# Altium integrated library ECE Components_16_2.IntLib: 370 symbols (part 2 of 4)
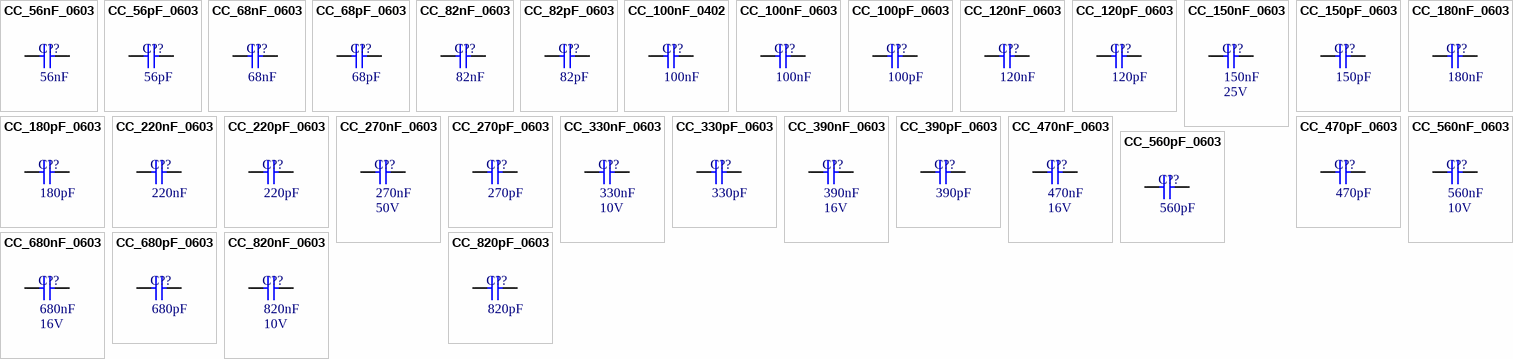
[diagram p12: symbols CC_56nF_0603 to CC_820pF_0603]

## CC_560nF_0603
designator C??, comment MoV: 10V  (hidden comment: 560nF)
CAP CER 560nF X7R +-10% 10V 0603; PackageReference: 0603; Code_IPC: 1608 [0603]; Verify: *; Supplier: ECE Dept; Storage Location: PCB Assembly WS; Value: 560nF
simulation model CAP (Capacitor)
footprint CAPC1608L (Chip Capacitor, Body 1.6x0.8mm, IPC High Density)
footprint CAPC1608M (Chip Capacitor, Body 1.6x0.8mm, IPC Low Density)
footprint CAPC1608N (Chip Capacitor, Body 1.6x0.8mm, IPC Medium Density)
pins: 1, 2

## CC_560pF_0603
designator C??, comment 560pF
CAP CER 560pF X7R +-10% 50V 0603; PackageReference: 0603; Code_IPC: 1608 [0603]; Verify: *; Supplier: ECE Dept; Storage Location: PCB Assembly WS; MoV: 50V; Value: 560pF
simulation model CAP (Capacitor)
signal-integrity model C0603
footprint CAPC1608L (Chip Capacitor, Body 1.6x0.8mm, IPC High Density)
footprint CAPC1608M (Chip Capacitor, Body 1.6x0.8mm, IPC Low Density)
footprint CAPC1608N (Chip Capacitor, Body 1.6x0.8mm, IPC Medium Density)
pins: 1, 2

## CC_680nF_0603
designator C??, comment MoV: 16V  (hidden comment: 680nF)
CAP CER 680nF X5R +-10% 16V 0603; PackageReference: 0603; Code_IPC: 1608 [0603]; Verify: *; Supplier: ECE Dept; Storage Location: PCB Assembly WS; Value: 680nF
simulation model CAP (Capacitor)
signal-integrity model C0603
footprint CAPC1608L (Chip Capacitor, Body 1.6x0.8mm, IPC High Density)
footprint CAPC1608M (Chip Capacitor, Body 1.6x0.8mm, IPC Low Density)
footprint CAPC1608N (Chip Capacitor, Body 1.6x0.8mm, IPC Medium Density)
pins: 1, 2

## CC_680pF_0603
designator C??, comment 680pF
CAP CER 680pF X7R +-10% 50V 0603; PackageReference: 0603; Code_IPC: 1608 [0603]; Verify: *; Supplier: ECE Dept; Storage Location: PCB Assembly WS; MoV: 50V; Value: 680pF
simulation model CAP (Capacitor)
signal-integrity model C0603
footprint CAPC1608L (Chip Capacitor, Body 1.6x0.8mm, IPC High Density)
footprint CAPC1608M (Chip Capacitor, Body 1.6x0.8mm, IPC Low Density)
footprint CAPC1608N (Chip Capacitor, Body 1.6x0.8mm, IPC Medium Density)
pins: 1, 2

## CC_820nF_0603
designator C??, comment MoV: 10V  (hidden comment: 820nF)
CAP CER 820nF X7R +-10% 10V 0603; PackageReference: 0603; Code_IPC: 1608 [0603]; Verify: *; Supplier: ECE Dept; Storage Location: PCB Assembly WS; Value: 820nF
simulation model CAP (Capacitor)
footprint CAPC1608L (Chip Capacitor, Body 1.6x0.8mm, IPC High Density)
footprint CAPC1608M (Chip Capacitor, Body 1.6x0.8mm, IPC Low Density)
footprint CAPC1608N (Chip Capacitor, Body 1.6x0.8mm, IPC Medium Density)
pins: 1, 2

## CC_820pF_0603
designator C??, comment 820pF
CAP CER 820pF X7R +-10% 50V 0603; PackageReference: 0603; Code_IPC: 1608 [0603]; Verify: *; Supplier: ECE Dept; Storage Location: PCB Assembly WS; Value: 820pF
simulation model CAP (Capacitor)
signal-integrity model C0603
footprint CAPC1608L (Chip Capacitor, Body 1.6x0.8mm, IPC High Density)
footprint CAPC1608M (Chip Capacitor, Body 1.6x0.8mm, IPC Low Density)
footprint CAPC1608N (Chip Capacitor, Body 1.6x0.8mm, IPC Medium Density)
pins: 1, 2


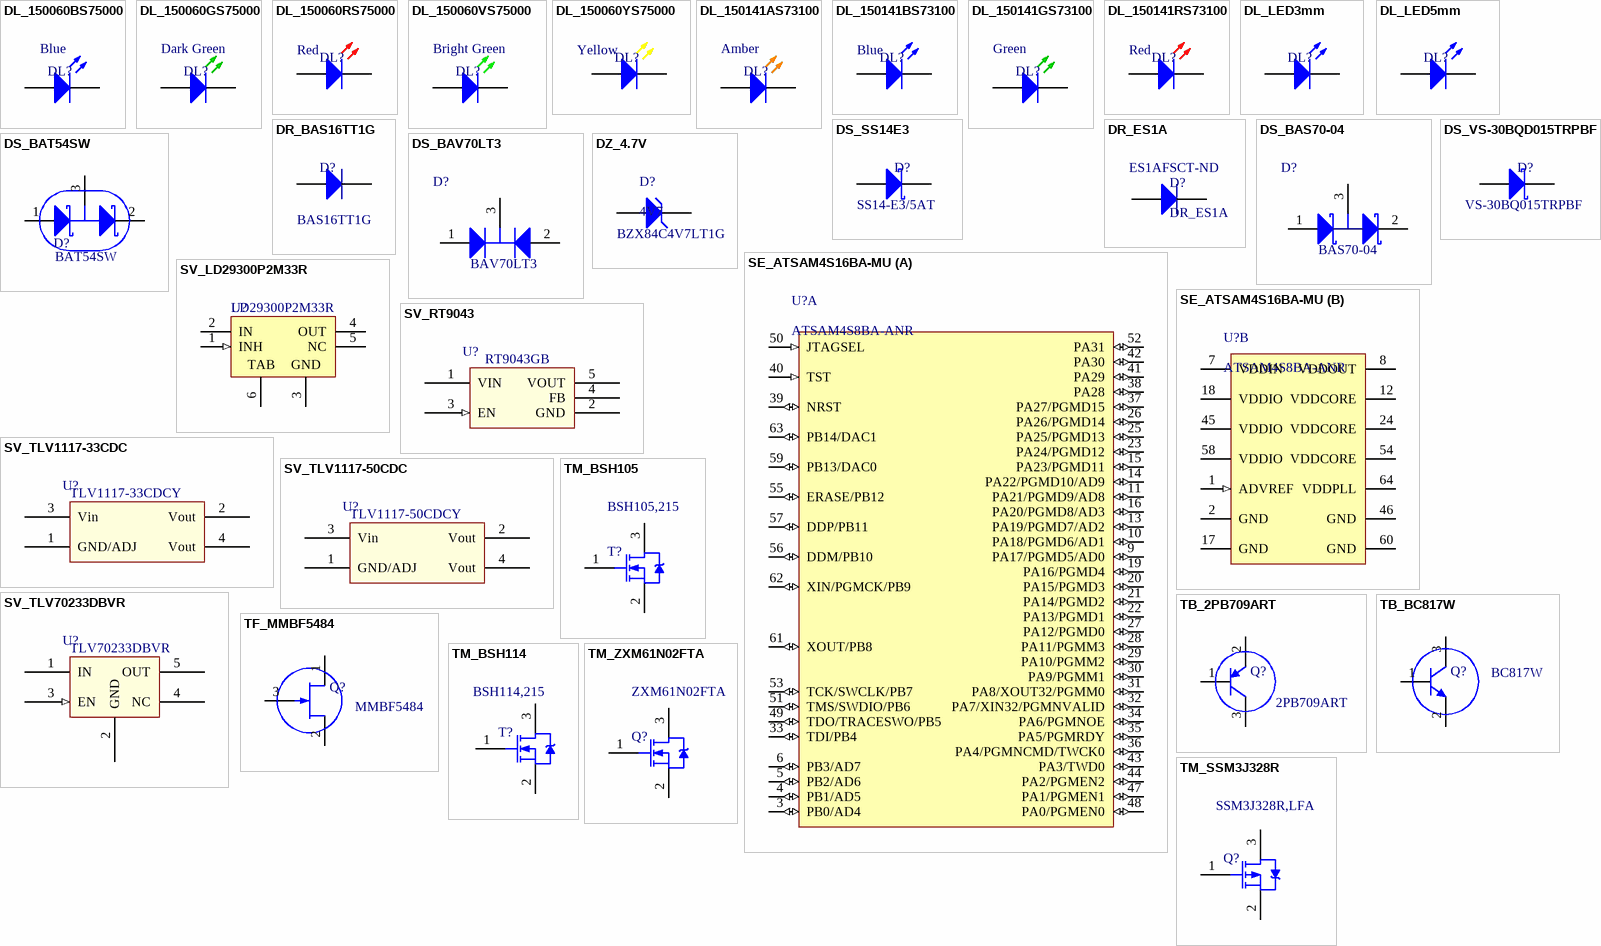
[diagram p3: symbols DL_150060BS75000 to TM_ZXM61N02FTA]

## DL_150060BS75000
designator DL?, comment Blue
LED Blue 270mcd 0603 SMD; Manufacturer: WURTH ELEKTRONIK; Manufacturer Part Number: 150060BS75000; Forward Current If: 30; Forward Voltage: 3.2; Luminous Intensity: 270; Viewing Angle: 120°; Wavelength Typ: 470; Pricing: 1=0.3844, 50=0.3252, 100=0.2957, 500=0.2365 (NZD); Supplier 1: Farnell; Supplier Part Number 1: 2322069; Storage Location: PCB Assembly WS; Supplier: ECE Dept; LED Colour: Blue
footprint WL-SMCW0603 (2.4 x 0.8 x 0.7mm LED)
pins: 1 K, 2 A

## DL_150060GS75000
designator DL?, comment Dark Green
LED Dk Green 430mcd 0603 SMD; Manufacturer: WURTH ELEKTRONIK; Manufacturer Part Number: 150060GS75000; Forward Current If: 30; Wavelength Typ: 520; Forward Voltage: 3.2; Lens Shape: Rectangular; Luminous Intensity: 430; Viewing Angle: 140°; LED Mounting: SMD; Supplier 1: Farnell; Supplier Part Number 1: 2322070; Storage Location: PCB Assembly WS; Supplier: ECE Dept; LED Colour: Dark Green
footprint WL-SMCW0603 (2.4 x 0.8 x 0.7mm LED)
pins: 1 K, 2 A

## DL_150060RS75000
designator DL?, comment Red
LED Red 250mcd 0603 SMD; Manufacturer: WURTH ELEKTRONIK; Manufacturer Part Number: 150060RS75000; Forward Current If: 30; Forward Voltage: 2; Lens Shape: Rectangular; Luminous Intensity: 250; Wavelength Typ: 625; Viewing Angle: 140°; LED Mounting: SMD; Supplier 1: Farnell; Supplier Part Number 1: 2322071; Storage Location: PCB Assembly WS; Supplier: ECE Dept; LED Colour: Red
footprint WL-SMCW0603 (2.4 x 0.8 x 0.7mm LED)
pins: 1 K, 2 A

## DL_150060VS75000
designator DL?, comment Bright Green
LED Bright Green 40mcd 0603 SMD; Manufacturer: WURTH ELEKTRONIK; Manufacturer Part Number: 150060VS75000; Forward Current If: 30; Forward Voltage: 2; Viewing Angle: 140°; Wavelength Typ: 570; Luminous Intensity: 40; LED Mounting: SMD; Supplier 1: Farnell; Supplier Part Number 1: 2322073; Storage Location: PCB Assembly WS; Supplier: ECE Dept; LED Colour: Bright Green
footprint WL-SMCW0603 (2.4 x 0.8 x 0.7mm LED)
pins: 1 K, 2 A

## DL_150060YS75000
designator DL?, comment Yellow
LED Yellow 120mcd 0603 SMD; Manufacturer: WURTH ELEKTRONIK; Manufacturer Part Number: 150060YS75000; Forward Current If: 30; Forward Voltage: 2; Wavelength Typ: 590; Lens Shape: Rectangular; Viewing Angle: 140°; Luminous Intensity: 120; LED Mounting: SMD; Supplier 1: Farnell; Supplier Part Number 1: 2322074; Storage Location: PCB Assembly WS; Supplier: ECE Dept; LED Colour: Yellow
footprint WL-SMCW0603 (2.4 x 0.8 x 0.7mm LED)
pins: 1 K, 2 A

## DL_150141AS73100
designator DL?, comment Amber
LED Amber 330mcd 3528 SMD; Manufacturer: WURTH ELEKTRONIK; Manufacturer Part Number: 150141AS73100; Forward Current If: 30; Forward Voltage: 2; Lens Shape: Round; Luminous Intensity: 330; Viewing Angle: 120°; Wavelength Typ: 605; LED Mounting: SMD; Supplier 1: Farnell; Supplier Part Number 1: 2322104; Storage Location: PCB Assembly WS; Supplier: ECE Dept; LED Colour: Amber
footprint WL-SMTW3528 (3.5 x 2.8 x 1.9 mm LED)
pins: 1 K, 2 A

## DL_150141BS73100
designator DL?, comment Blue
LED Blue 270mcd 3528 SMD; Manufacturer: WURTH ELEKTRONIK; Manufacturer Part Number: 150141BS73100; Forward Current If: 30; Forward Voltage: 3.2; Lens Shape: Round; Luminous Intensity: 270; Supplier 1: Farnell; Supplier Part Number 1: 2322105; Storage Location: PCB Assembly WS; Supplier: ECE Dept; LED Mounting: SMD; LED Colour: Blue
footprint WL-SMTW3528 (3.5 x 2.8 x 1.9 mm LED)
pins: 1 K, 2 A

## DL_150141GS73100
designator DL?, comment Green
LED Green 1000mcd  3528 SMD; Manufacturer: WURTH ELEKTRONIK; Manufacturer Part Number: 150141GS73100; Forward Current If: 30; Lens Shape: Round; Luminous Intensity: 1; Viewing Angle: 120°; Wavelength Typ: 525; LED Mounting: SMD; Supplier 1: Farnell; Supplier Part Number 1: 2322106; Storage Location: PCB Assembly WS; Supplier: ECE Dept; LED Colour: Green
footprint WL-SMTW3528 (3.5 x 2.8 x 1.9 mm LED)
pins: 1 K, 2 A

## DL_150141RS73100
designator DL?, comment Red
LED Red 300mcd 3528 SMD; Manufacturer: WURTH ELEKTRONIK; Manufacturer Part Number: 150141RS73100; Forward Current If: 30; Forward Voltage: 2; Lens Shape: Round; Luminous Intensity: 300; Viewing Angle: 120°; Wavelength Typ: 625; LED Mounting: SMD; Supplier 1: Farnell; Supplier Part Number 1: 2322107; Storage Location: PCB Assembly WS; Supplier: ECE Dept; LED Colour: Red
footprint WL-SMTW3528 (3.5 x 2.8 x 1.9 mm LED)
pins: 1 K, 2 A

## DL_LED3mm
designator DL?
LED 3mm Dia Thru Hole; Storage Location: ECE Store; Supplier 1: Farnell; Supplier Part Number 1: 1497967; Supplier: ECE Dept
footprint LED3MMTH (LED 3 mm Through Hole)
pins: 1 K, 2 A

## DL_LED5mm
designator DL?
LED 5mm Dia Thru Hole; Storage Location: ECE Store; Supplier 1: Farnell; Supplier Part Number 1: 1241259; Supplier: ECE Dept
footprint LED5MMTH (LED 5 mm Through Hole)
pins: 1 K, 2 A

## DR_BAS16TT1G
designator D?, comment BAS16TT1G
Diode Switching, Vr 75V, 200mA, SOT-416; Manufacturer: ON Semiconductor; Supplier 1: Farnell; Supplier Part Number 1: 1150367; Supplier 2: ECE Stock; Manufacturer PN: BAS16TT1G; Storage Location: PCB Assembly WS; Supplier: ECE Dept; Value: BAS16TT1G
footprint SOT416 (2x2.2 mm 3 pad SMD)
pins: 1 A, 3 K

## DR_ES1A
designator D?  Supplier Part Number 1: ES1AFSCT-ND
Ultrafast Rectifier SMD, SMA (DO-214C); Vprm: 50V; Vrms: 35; If av: 1.0A; Ifsm: 30A; Capacitance @ Vr, F: 7pF @ 4V, 1MHz; Current - Average Rectified (Io): 1A; Current - Reverse Leakage @ Vr: 5µA @ 50V; Reverse Recovery Time (trr): 15ns; Speed: Fast Recovery =< 500ns, > 200mA (Io); Voltage - Forward (Vf) (Max) @ If: 920mV @ 1A; Max DC blocking V: 50V; Category: Discrete Semiconductor Products; Package / Case: DO-214AC, SMA; Supplier Device Package: SMA (DO-214AC); Voltage - DC Reverse (Vr) (Max): 50V; Supplier 1: Digi-Key
footprint SMA (SODFL, 2-Leads, Body 2.67x5.10mm, IPC Medium Density)
pins: 1 K, 2 A

## DS_BAS70-04
designator D?, comment BAS70-04
Schottky Dual Series Diode, SOT23,; Manufacturer: Infineon; CT (max): 2 pF; Green: TRUE; IF (max): 70 mA; VF (max): 1,000 mV; VR (max): 70 V; PackageReference: SOT23; PackageDescription: 3-Pin Small Outline Transistor Package, 1.3 x 2.9 mm Body, 0.95 mm Pitch; Supplier 3: Farnell; Supplier Part Number 3: 1056501; Configuration: Dual; Mounting Technology: Surface Mount; ComponentLink1Description: Manufacturer URL; ComponentLink1URL: http://www.infineon.com/; ComponentLink2Description: Datasheet; ComponentLink2URL: http://www.infineon.com/dgdl/bas70_bas170series.pdf?folderId=db3a30431400ef68011425f1ca2505e3&fileId=db3a304314dca389011518ad41680e12; ComponentLink3Description: Package Specification; ComponentLink3URL: http://www.infineon.com/dgdl/SOT23-Package_Overview.pdf?folderId=db3a30431936bc4b0119532290053c66&fileId=db3a30431936bc4b0119533468123c85; Supplier 1: Farnell; Supplier Part Number 1: 1621826; PartNumber: BAS70-04
footprint INF-SOT23_L (SOT23, 3-Leads, Body 2.9x1.3 mm, Pitch 0.95 mm, IPC High Density)
footprint INF-SOT23_N (SOT23, 3-Leads, Body 2.9x1.3 mm, Pitch 0.95 mm, IPC Medium Density)
footprint INF-SOT23_M (SOT23, 3-Leads, Body 2.9x1.3 mm, Pitch 0.95 mm, IPC Low Density)
pins: 1 A1, 2 K2, 3 C

## DS_BAT54SW
designator D?, comment value BAT54SW  (hidden comment: Farnell)
Schottky Barrier Double Diode 30V @ 200mA SOT323; Supplier 1: Farnell; Supplier Part Number 1: 1081195; Storage Location: PCB Assembly WS; Supplier: ECE Dept
signal-integrity model BAS40-04
footprint SOT323_M (SOT323, 3-Leads, Body 2.0x1.3mm, Pitch 0.65mm, Lead Span 2.1mm, IPC Low Density)
footprint SOT323_N (SOT323, 3-Leads, Body 2.0x1.3mm, Pitch 0.65mm, Lead Span 2.1mm, IPC Medium Density)
pins: 1 A, 2, 3

## DS_BAV70LT3
designator D?, comment BAV70LT3
Dual Switching Diodes, Common Cathode, 3-Pin SOT-23,; Manufacturer: On Semiconductor; Note: 0; IF Max (A): 0.2; Packing: Tape and Reel; trr Max (ns): 6; DatasheetVersion: Rev. 8; PackageVersion: Rev. AP, 11/2009; PackageReference: SOT-23-3-318-08; PackageDescription: 3-Pin Small Outline Transistor, Body 2.92 x 1.3 mm, Pitch 0.95 mm; Configuration: Common Cathode; RoHS: FALSE; Mounting Technology: Surface Mount; ComponentLink1Description: Manufacturer URL; ComponentLink1URL: http://www.onsemi.com/; ComponentLink2Description: Datasheet; ComponentLink2URL: http://www.onsemi.cn/pub_link/Collateral/BAV70LT1-D.PDF; ComponentLink3Description: Package Specification; ComponentLink3URL: http://www.onsemi.cn/pub_link/Collateral/318-08.PDF; Supplier 1: Digi-Key; Supplier Part Number 1: BAV70LT3GOSCT-ND; PartNumber: BAV70LT3
footprint ONSC-SOT-23-3-318-08_V (SOT23, 3-Leads, Body 2.92x1.3mm, Pitch 0.95mm)
pins: 1 A1, 2 A2, 3 K

## DS_SS14E3
designator D?, comment SS14-E3/5AT
DIODE, SCHOTTKY, 1A, 40V, DO-214AC; Manufacturer: VISHAY GENERAL SEMICONDUCTOR; Diode Case Style: DO-214; Forward Current If(AV): 1; Diode Type: Schottky; Package / Case: SMA; Supplier 1: Digi-Key; Supplier Part Number 1: SS14-E3/5ATGICT-ND; Supplier 2: Farnell; Supplier Part Number 2: 9551280; Supplier 3: Mouser; Supplier Part Number 3: 625-SS14-E3/11T; Storage Location: PCB Assembly WS; Supplier: ECE Dept; Manufacturer Part Number: SS14-E3/5AT
footprint DIOM4227X23N (Molded Diode, 2-Leads, Body 4.25x2.67mm, IPC Medium Density)
pins: 1 K, 2 A

## DS_VS-30BQD015TRPBF
designator D?, comment VS-30BQ015TRPBF
DIODE SCHOTTKY 15V 3A SMC; Manufacturer: Vishay Semiconductor Diodes Division; Current - Reverse Leakage @ Vr: 4mA @ 15V; Voltage - Forward (Vf) (Max) @ If: 350mV @ 3A; Current - Average Rectified (Io): 3A; Package / Case: DO-214AB, SMC; Pricing: 1=1.59, 10=1.417, 25=1.2504, 100=1.1253, 250=0.97944, 500=0.87526, 1000=0.6877 (NZD); Supplier 1: Digi-Key; Supplier Part Number 1: 30BQ015PBFCT-ND; Supplier 2: Farnell; Supplier Part Number 2: 9101250; Supplier 3: Mouser; Supplier Part Number 3: N/A; Storage Location: PCB Assembly WS; Supplier: ECE Dept; Manufacturer Part Number: VS-30BQ015TRPBF
footprint SMC (DO-214-AB/SMC; 2 C-Bend Leads; Body 7.9 x 5.9 mm, inc. leads (LxW))
pins: 1 A "Anode", 2 K "Cathode"

## DZ_4.7V
designator D?, comment 4V7  Manufacturer Part Number: BZX84C4V7LT1G
BZX84C4V7LT1G - DIODE, ZENER, 4.7V, 225MW, SOT23; Manufacturer: ON SEMICONDUCTOR; Breakdown Voltage Max: 5; Breakover Voltage Min: 4.7; Diode Case Style: SOT-23; Power Dissipation Pd: 225; Supplier 1: Farnell; Supplier 2: Digi-Key; Supplier Part Number 1: 1459051; Supplier Part Number 2: BZX84C4V7LT1GOSCT-ND
footprint SOT23_L (SOT23, 3-Leads, Body 2.9x1.3mm, Pitch 0.95mm, Lead Span 2.3mm, IPC High Density)
footprint SOT23_M (SOT23, 3-Leads, Body 2.9x1.3mm, Pitch 0.95mm, Lead Span 2.3mm, IPC Low Density)
footprint SOT23_N (SOT23, 3-Leads, Body 2.9x1.3mm, Pitch 0.95mm, Lead Span 2.3mm, IPC Medium Density)
pins: 1 A, 3 K

## SE_ATSAM4S16BA-MU
designator U?, comment ATSAM4S8BA-ANR
IC MCU 32BIT 512KB FLASH 64LQFP; Manufacturer: Atmel; Connectivity: I²C, IrDA, Memory Card, SPI, SSC, UART/USART, USB; Core Processor: ARM® Cortex®-M4; Core Size: 32-Bit; Data Converters: A/D 11x12b, D/A 2x12b; Number of I/O: 47; Peripherals: Brown-out Detect/Reset, DMA, POR, PWM, WDT; Program Memory Size: 512KB (512K x 8); RAM Size: 128K x 8; Speed: 120MHz; Voltage - Supply (Vcc/Vdd): 1.62 V ~ 3.6 V; PackageVersion: revJ, Jul-2007; PackageReference: 64PS; PackageDescription: 64-Pin Quad Flat No-Lead (QFN) Sawn, 9 x 9 x 1.0 mm Body, 0.5 mm Pitch, Exposed Pad; Code_JEDEC: MO-220VMMD-3; ComponentLink1Description: Manufacturer URL; ComponentLink1URL: http://www.atmel.com/; ComponentLink2Description: SAM4S Series Datasheet; ComponentLink2URL: http://www.atmel.com/dyn/resources/prod_documents/11100.pdf; ComponentLink3Description: SAM4S Series Summary; ComponentLink3URL: http://www.atmel.com/dyn/resources/prod_documents/11100S.pdf; Supplier 1: Digi-Key; Package / Case: 64-LQFP; Packaging: Cut Tape (CT); Program Memory Type: FLASH; Supplier Part Number 1: ATSAM4S8BA-ANRCT-ND; Manufacturer Part Number: ATSAM4S8BA-ANR
footprint LQFP64_L (Thin QFP, 64-Leads, Body 10x10mm, Pitch 0.5mm, IPC High Density)
part A pins: 3 PB0/AD4 (io), 4 PB1/AD5 (io), 5 PB2/AD6 (io), 6 PB3/AD7 (io), 9 PA17/PGMD5/AD0 (io), 10 PA18/PGMD6/AD1 (io), 11 PA21/PGMD9/AD8 (io), 13 PA19/PGMD7/AD2 (io), 14 PA22/PGMD10/AD9 (io), 15 PA23/PGMD11 (io), 16 PA20/PGMD8/AD3 (io), 19 PA16/PGMD4 (io), 20 PA15/PGMD3 (io), 21 PA14/PGMD2 (io), 22 PA13/PGMD1 (io), 23 PA24/PGMD12 (io), 25 PA25/PGMD13 (io), 26 PA26/PGMD14 (io), 27 PA12/PGMD0 (io), 28 PA11/PGMM3 (io), 29 PA10/PGMM2 (io), 30 PA9/PGMM1 (io), 31 PA8/XOUT32/PGMM0 (io), 32 PA7/XIN32/PGMNVALID (io), 33 TDI/PB4 (io), 34 PA6/PGMNOE (io), 35 PA5/PGMRDY (io), 36 PA4/PGMNCMD/TWCK0 (io), 37 PA27/PGMD15 (io), 38 PA28 (io), 39 NRST (io), 40 TST (in), 41 PA29 (io), 42 PA30 (io), 43 PA3/TWD0 (io), 44 PA2/PGMEN2 (io), 47 PA1/PGMEN1 (io), 48 PA0/PGMEN0 (io), 49 TDO/TRACESWO/PB5 (io), 50 JTAGSEL (in), 51 TMS/SWDIO/PB6 (io), 52 PA31 (io), 53 TCK/SWCLK/PB7 (io), 55 ERASE/PB12 (io), 56 DDM/PB10 (io), 57 DDP/PB11 (io), 59 PB13/DAC0 (io), 61 XOUT/PB8 (io), 62 XIN/PGMCK/PB9 (io), 63 PB14/DAC1 (io)
part B pins: 1 ADVREF (in), 2 GND (power), 7 VDDIN (power), 8 VDDOUT (power), 12 VDDCORE (power), 17 GND (power), 18 VDDIO (power), 24 VDDCORE (power), 45 VDDIO (power), 46 GND (power), 54 VDDCORE (power), 58 VDDIO (power), 60 GND (power), 64 VDDPLL (power)

## SV_LD29300P2M33R
designator U?, comment LD29300P2M33R
3A, Very Low-Drop Voltage Reg, 3.3V, 6-Pin P2PAK/A; Manufacturer: STMicroelectronics; Number of Regulators: 1; Regulator Topology: Positive Fixed; Voltage - Dropout (Typical): 0.4V @ 3A; Voltage - Input: Up to 14V; Current - Output: 3A; Mounting Type: Surface Mount; Operating Temperature: -40°C ~ 125°C; Package / Case: TO-263-6, D²Pak (5 Leads + Tab), TO-263BA; Supplier Device Package: P2PAK-4; Voltage - Output: 3.3V; Supplier 1: Digi-Key; Supplier Part Number 1: 497-3475-1-ND; Manufacturer Part Number: LD29300P2M33R
footprint P2PAK/A_N (D2-PAK, 6-Leads, Body 9.2x10.2mm, Pitch 1.7mm, Lead Span 15.4mm, IPC Medium Density)
footprint P2PAK/A_M (D2-PAK, 6-Leads, Body 9.2x10.2mm, Pitch 1.7mm, Lead Span 15.4mm, IPC Low Density)
pins: 1 INH (in), 2 IN (power), 3 GND (power), 4 OUT (power), 5 NC, 6 TAB

## SV_RT9043
designator U?, comment RT9043GB
IC REG LDO ADJ 0.4A SOT23-5; Manufacturer: Richtek USA Inc; Current - Output: 400mA; Regulator Topology: Positive Adjustable; Voltage - Dropout (Typical): 0.23V @ 400mA; Voltage - Input: 2.2 V ~ 5.5 V; Voltage - Output: 1.2 V ~ 3.3 V; Supplier 1: Digi-Key; Supplier 2: Farnell; Package / Case: SC-74A, SOT-753; Supplier Part Number 1: 1028-1012-1-ND; Supplier Part Number 2: 2341442; Manufacturer Part Number: RT9043GB
footprint SOT95P188X129-5N (SOT23, 5-Leads, Body 2.90x1.88mm, Pitch 0.95mm, IPC Medium Density)
pins: 1 VIN (power), 2 GND (power), 3 EN (in), 4 FB, 5 VOUT (power)

## SV_TLV1117-33CDC
designator U?, comment TLV1117-33CDCY
IC REG LDO 3.3V 0.8A SOT223; Manufacturer: Texas Instruments; Current - Output: 800mA; Voltage - Dropout (Typical): 1.2V @ 800mA; Voltage - Input: 4.7 V ~ 15 V; Supplier Device Package: SOT-223; Voltage - Output: 3.3V; Package / Case: TO-261-4, TO-261AA; Supplier 1: Digi-Key; Supplier 2: Farnell; Supplier Part Number 1: 296-26776-5-ND; Supplier Part Number 2: 2009003; Manufacturer Part Number: TLV1117-33CDCY
footprint SOT230P700X180-4N (SOT223, 4-Leads, Body 6.50x7.00mm (avg), Pitch 2.30mm, IPC Medium Density)
pins: 1 GND/ADJ, 2 Vout (power), 3 Vin (power), 4 Vout (power)

## SV_TLV1117-50CDC
designator U?, comment TLV1117-50CDCY
IC REG LDO 5V 0.8A SOT223; Manufacturer: Texas Instruments; Current - Output: 800mA; Voltage - Input: 6.4 V ~ 15 V; Supplier 1: Digi-Key; Supplier 2: Farnell; Package / Case: TO-261-4, TO-261AA; Voltage - Output: 5V; Supplier Part Number 1: 296-21114-1-ND; Supplier Part Number 2: 2114118; Manufacturer Part Number: TLV1117-50CDCY
footprint SOT230P700X180-4N (SOT223, 4-Leads, Body 6.50x7.00mm (avg), Pitch 2.30mm, IPC Medium Density)
pins: 1 GND/ADJ, 2 Vout (power), 3 Vin (power), 4 Vout (power)

## SV_TLV70233DBVR
designator U?, comment TLV70233DBVR
IC REG LDO 3.3V 0.3A SOT23-5; Manufacturer: Texas Instruments; Current - Output: 300mA; Supplier 1: Digi-Key; Operating Temperature: -40°C ~ 125°C; Package / Case: SC-74A, SOT-753; Pricing: 1=0.77, 10=0.647, 25=0.5672, 100=0.4853, 250=0.421, 500=0.35658, 750=0.30789, 1000=0.2749 (NZD); Supplier Part Number 1: 296-32415-1-ND; Manufacturer Part Number: TLV70233DBVR
footprint SOT95P280X145-5N (SOT23, 5-Leads, Body 2.90x2.80mm, Pitch 0.95mm, IPC Medium Density)
pins: 1 IN (power), 2 GND (power), 3 EN (in), 4 NC, 5 OUT (power)

## TB_2PB709ART
designator Q?, comment 2PB709ART
PNP GP Bipolar Transistor -45V -100MA SOT23; Manufacturer: NXP; Manufacturer PN: 2PB709ART; Supplier 1: Farnell; Supplier Part Number 1: 2114874; Storage Location: PCB Assembly WS; Supplier: ECE Dept; Value: 2PB709ART
signal-integrity model PNP
footprint SOT23_L (SOT23, 3-Leads, Body 2.9x1.3mm, Pitch 0.95mm, Lead Span 2.3mm, IPC High Density)
footprint SOT23_M (SOT23, 3-Leads, Body 2.9x1.3mm, Pitch 0.95mm, Lead Span 2.3mm, IPC Low Density)
footprint SOT23_N (SOT23, 3-Leads, Body 2.9x1.3mm, Pitch 0.95mm, Lead Span 2.3mm, IPC Medium Density)
pins: 1, 2, 3

## TB_BC817W
designator Q?, comment BC817W
NPN GP Bipolar Transistor 45V 500mA SOT323; Manufacturer: NXP; Supplier 1: Farnell; Supplier Part Number 1: 2114873; Manufacturer PN: BC817W; Storage Location: PCB Assembly WS; Supplier: ECE Dept; Value: BC817W
signal-integrity model 2N3904
footprint SOT323_M (SOT323, 3-Leads, Body 2.0x1.3mm, Pitch 0.65mm, Lead Span 2.1mm, IPC Low Density)
footprint SOT323_N (SOT323, 3-Leads, Body 2.0x1.3mm, Pitch 0.65mm, Lead Span 2.1mm, IPC Medium Density)
pins: 1, 2, 3

## TF_MMBF5484
designator Q?, comment value MMBF5484  (hidden comment: Farnell)
JFET N-CH 25V SOT-23; Supplier 1: Farnell; Supplier Part Number 1: 1700690; Storage Location: PCB Assembly WS; Supplier: ECE Dept
footprint SOT23_L (SOT23, 3-Leads, Body 2.9x1.3mm, Pitch 0.95mm, Lead Span 2.3mm, IPC High Density)
footprint SOT23_M (SOT23, 3-Leads, Body 2.9x1.3mm, Pitch 0.95mm, Lead Span 2.3mm, IPC Low Density)
footprint SOT23_N (SOT23, 3-Leads, Body 2.9x1.3mm, Pitch 0.95mm, Lead Span 2.3mm, IPC Medium Density)
pins: 1 "Drain", 2 "Source", 3 "Gate"

## TM_BSH105
designator T?, comment BSH105,215
MOSFET N-CH 20V 1.05A SOT-23; Manufacturer: NXP Semiconductors; FET Type: MOSFET N-Channel, Metal Oxide; Gate Charge (Qg) @ Vgs: 3.9nC @ 4.5V; Input Capacitance (Ciss) @ Vds: 152pF @ 16V; Power - Max: 417mW; Rds On (Max) @ Id, Vgs: 200 mOhm @ 600mA, 4.5V; Supplier 1: Farnell; Supplier 2: Digi-Key; Current - Continuous Drain (Id) @ 25° C: 1.05A; Drain to Source Voltage (Vdss): 20V; Package / Case: TO-236-3, SC-59, SOT-23-3; Pricing: 1=0.53, 10=0.42, 25=0.3544, 100=0.2885, 250=0.23896, 500=0.1974, 1000=0.14785 (NZD); Supplier Part Number 1: 1758066; Supplier Part Number 2: 568-6215-1-ND; Storage Location: PCB Assembly WS; Supplier: ECE Dept; Manufacturer Part Number: BSH105,215
footprint SOT23_L (SOT23, 3-Leads, Body 2.9x1.3mm, Pitch 0.95mm, Lead Span 2.3mm, IPC High Density)
footprint SOT23_M (SOT23, 3-Leads, Body 2.9x1.3mm, Pitch 0.95mm, Lead Span 2.3mm, IPC Low Density)
footprint SOT23_N (SOT23, 3-Leads, Body 2.9x1.3mm, Pitch 0.95mm, Lead Span 2.3mm, IPC Medium Density)
pins: 1 "Gate", 2 "Source", 3

## TM_BSH114
designator T?, comment BSH114,215
MOSFET N-CH 100V 0.85A SOT-23; Continuous Drain Current Id: 500; Current Id Max: 850; Drain Source Voltage Vds: 100; Power Dissipation Pd: 830; Transistor Type: Enhancement; Voltage Vds Typ: 130; Voltage Vgs Max: 3; Voltage Vgs Rds on Measurement: 10; Transistor Case Style: SOT-23; Supplier 1: Farnell; Supplier Part Number 1: 1758071RL; Manufacturer Part Number: BSH114,215
footprint SOT23_L (SOT23, 3-Leads, Body 2.9x1.3mm, Pitch 0.95mm, Lead Span 2.3mm, IPC High Density)
footprint SOT23_M (SOT23, 3-Leads, Body 2.9x1.3mm, Pitch 0.95mm, Lead Span 2.3mm, IPC Low Density)
footprint SOT23_N (SOT23, 3-Leads, Body 2.9x1.3mm, Pitch 0.95mm, Lead Span 2.3mm, IPC Medium Density)
pins: 1 "Gate", 2 "Source", 3

## TM_SSM3J328R
designator Q?, comment SSM3J328R,LFA
MOSFET P-CH 50V 130MA SOT23-3; Current - Continuous Drain (Id) @ 25° C: 6A; Drain to Source Voltage (Vdss): 20V; FET Feature: Logic Level Gate, 1.5V Drive; FET Type: MOSFET P-Channel, Metal Oxide; Gate Charge (Qg) @ Vgs: 12.8nC @ 4.5V; Input Capacitance (Ciss) @ Vds: 840pF @ 10V; Power - Max: 1W; Vgs(th) (Max) @ Id: 1V @ 1mA; Package / Case: SOT-23-3 Flat Leads; Supplier Device Package: SOT-23F; Pricing: 1=0.79, 10=0.658, 25=0.5772, 100=0.4939, 250=0.42836, 500=0.36284, 1000=0.27972 (NZD); Supplier 1: Digi-Key; Supplier Part Number 1: SSM3J328RLF(ACT-ND; Supplier 2: Mouser; Supplier Part Number 2: N/A; Supplier Part Number: SSM3J328RLF(ACT-ND; Storage Location: PCB Assembly WS; Supplier: ECE Dept; Manufacturer Part Number: SSM3J328R,LFA
footprint SOT23_L (SOT23, 3-Leads, Body 2.9x1.3mm, Pitch 0.95mm, Lead Span 2.3mm, IPC High Density)
footprint SOT23_M (SOT23, 3-Leads, Body 2.9x1.3mm, Pitch 0.95mm, Lead Span 2.3mm, IPC Low Density)
footprint SOT23_N (SOT23, 3-Leads, Body 2.9x1.3mm, Pitch 0.95mm, Lead Span 2.3mm, IPC Medium Density)
pins: 1 "Gate", 2 "Source", 3 "Drain"

## TM_ZXM61N02FTA
designator Q?, comment ZXM61N02FTA
MOSFET N-CH 20V 1.7A SOT23-3; Manufacturer: Diodes Inc; FET Type: MOSFET N-Channel, Metal Oxide; Gate Charge (Qg) @ Vgs: 3.4nC @ 4.5V; Input Capacitance (Ciss) @ Vds: 160pF @ 15V; Power - Max: 625mW; Rds On (Max) @ Id, Vgs: 180 mOhm @ 930mA, 4.5V; Vgs(th) (Max) @ Id: 700mV @ 250µA; Supplier 1: Farnell; Supplier 2: Digi-Key; Current - Continuous Drain (Id) @ 25° C: 1.7A; Drain to Source Voltage (Vdss): 20V; Package / Case: TO-236-3, SC-59, SOT-23-3; Pricing: 1=0.79, 10=0.658, 25=0.5772, 100=0.4939, 250=0.42836, 500=0.36284, 1000=0.27972 (NZD); Supplier Part Number 1: 9525270; Supplier Part Number 2: ZXM61N02FCT-ND; Storage Location: PCB Assembly WS; Supplier: ECE Dept; Manufacturer Part Number: ZXM61N02FTA
footprint SOT23_L (SOT23, 3-Leads, Body 2.9x1.3mm, Pitch 0.95mm, Lead Span 2.3mm, IPC High Density)
footprint SOT23_M (SOT23, 3-Leads, Body 2.9x1.3mm, Pitch 0.95mm, Lead Span 2.3mm, IPC Low Density)
footprint SOT23_N (SOT23, 3-Leads, Body 2.9x1.3mm, Pitch 0.95mm, Lead Span 2.3mm, IPC Medium Density)
pins: 1 "Gate", 2 "Source", 3 "Drain"


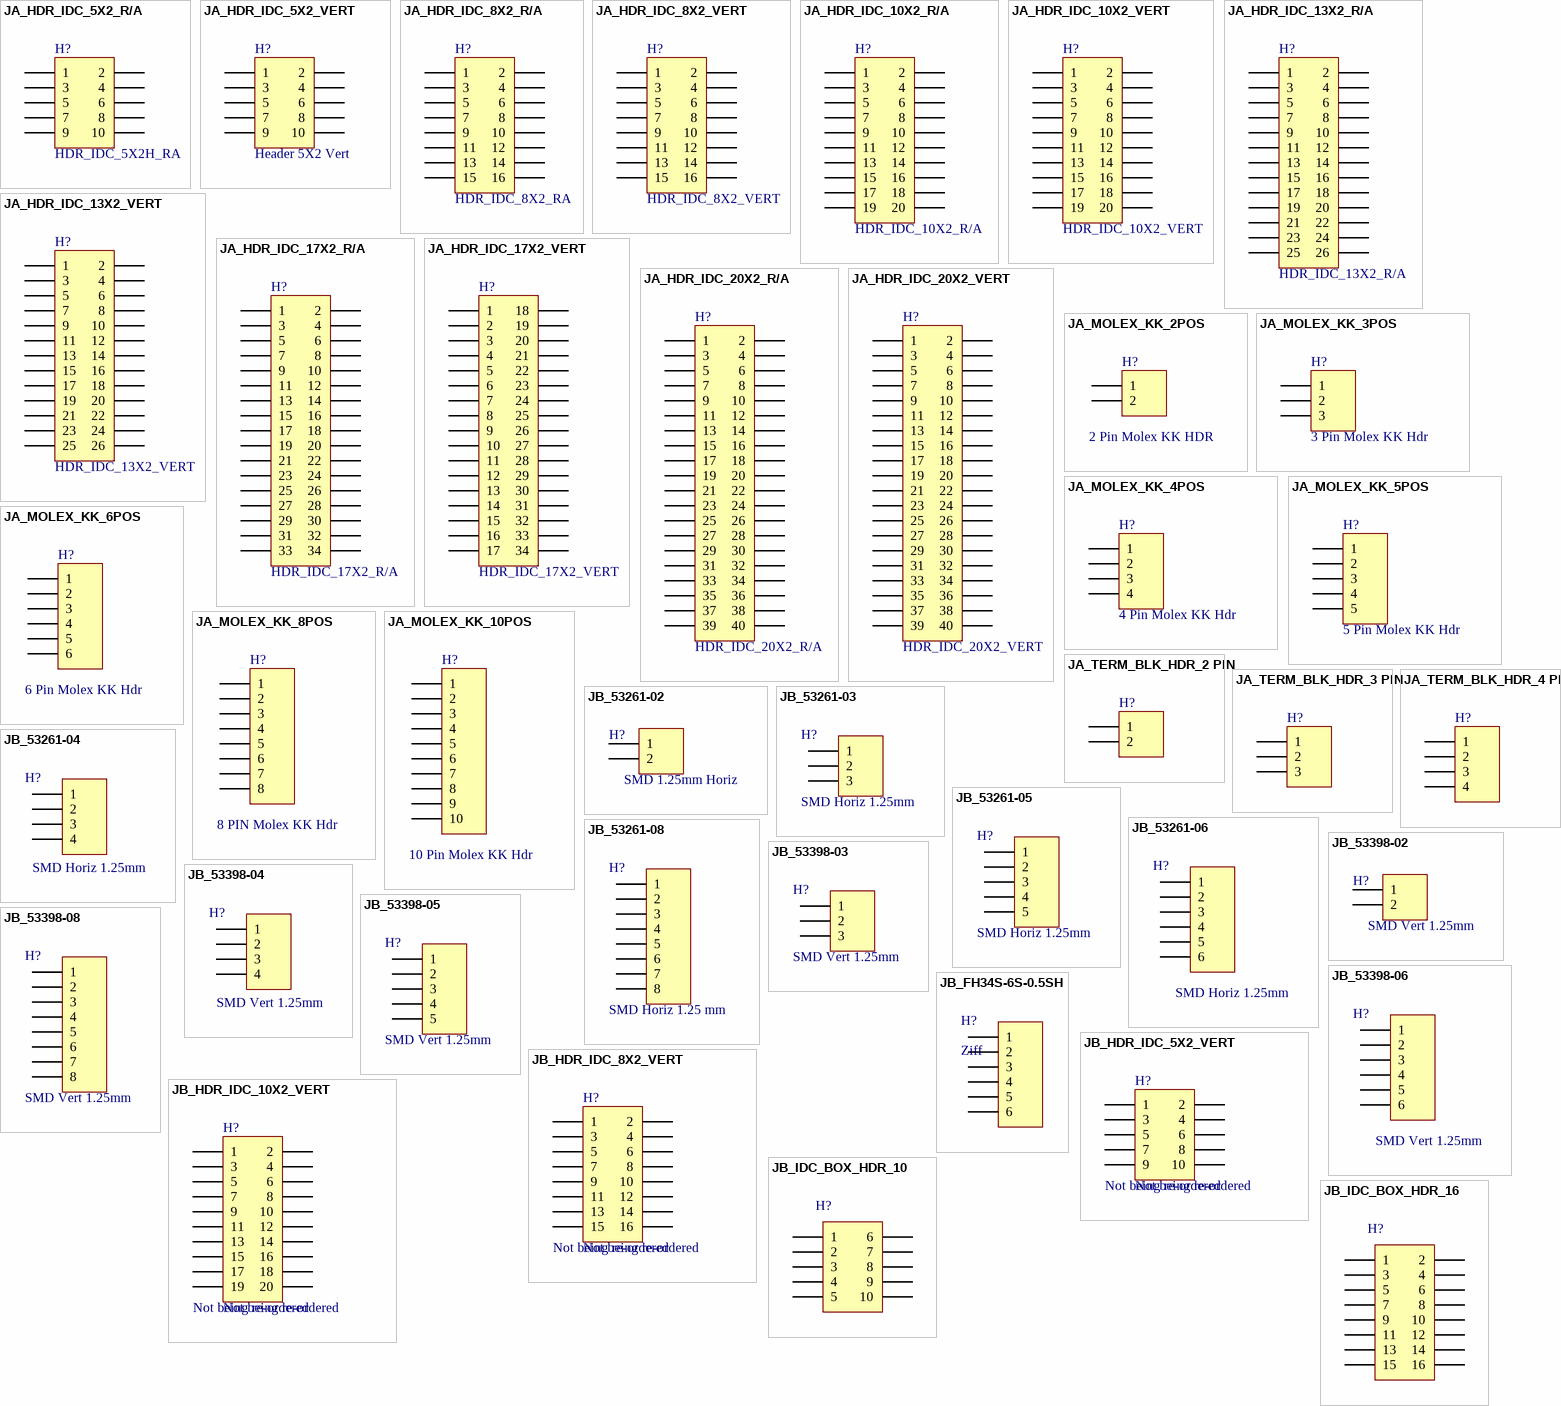
[diagram p4: symbols JA_HDR_IDC_5X2_R/A to JB_IDC_BOX_HDR_16]

## JA_HDR_IDC_5X2_R/A
designator H?, comment HDR_IDC_5X2H_RA
IDC Header, 2.54mm, 10-Pin, Right Angle; Supplier: ECE Dept; Supplier 1: Farnell; Supplier Part Number 1: 1106840; Storage Location: ECE Dept Store
footprint IDC2.54-H10C (Connector; IDC, Low Profile Male Header, Thru-Hole; 10 Position; Right Angle; Pitch 2.54 mm; Body 20.32 x 8.9 x 9.2 mm (LxWxH))
signal-integrity model Connector
pins: 1, 2, 3, 4, 5, 6, 7, 8, 9, 10

## JA_HDR_IDC_5X2_VERT
designator H?, comment Header 5X2 Vert
IDC Header, 2,54mm, 10-Pin, Vert; Supplier: ECE Dept; Supplier 1: Farnell; Supplier Part Number 1: 1096985; Storage Location: ECE Dept Store
footprint IDC2.54-V10D (Connector; IDC, Low Profile Male Header, Thru-Hole; 10 Position; Vertical; Pitch 2.54 mm; Body 20.32 x 9.2 x 9.45 mm (LxWxH))
signal-integrity model Connector
pins: 1, 2, 3, 4, 5, 6, 7, 8, 9, 10

## JA_HDR_IDC_8X2_R/A
designator H?, comment HDR_IDC_8X2_RA
IDC Header, 2.54mm, 16-Pin, Right Angle; Supplier: ECE Dept; Supplier 1: Farnell; Supplier Part Number 1: 1096981; Storage Location: ECE Dept Store
footprint IDC2.54-H16C (Connector; IDC, Low Profile Male Header, Thru-Hole; 16 Position; Right Angle; Pitch 2.54 mm; Body 27.94 x 8.9 x 9.2 mm (LxWxH))
signal-integrity model Connector
pins: 1, 2, 3, 4, 5, 6, 7, 8, 9, 10, 11, 12, 13, 14, 15, 16

## JA_HDR_IDC_8X2_VERT
designator H?, comment HDR_IDC_8X2_VERT
IDC Header, 2.54mm, 16-Pin, Vert; Supplier: ECE Dept; Supplier 1: Farnell; Supplier Part Number 1: 1096987; Storage Location: ECE Dept Store
footprint IDC2.54-V16D (Connector; IDC, Low Profile Male Header, Thru-Hole; 16 Position; Vertical; Pitch 2.54 mm; Body 27.94 x 9.2 x 9.45 mm (LxWxH))
signal-integrity model Connector
pins: 1, 2, 3, 4, 5, 6, 7, 8, 9, 10, 11, 12, 13, 14, 15, 16

## JA_HDR_IDC_10X2_R/A
designator H?, comment HDR_IDC_10X2_R/A
IDC Header, 2.54mm, 20-Pin, Right Angle; Supplier: ECE Dept; Supplier 1: Farnell; Supplier Part Number 1: 1096982; Storage Location: ECE Dept Store
footprint IDC2.54-H20C (Connector; IDC, Low Profile Male Header, Thru-Hole; 20 Position; Right Angle; Pitch 2.54 mm; Body 33.02 x 8.9 x 9.2 mm (LxWxH))
signal-integrity model Connector
pins: 1, 2, 3, 4, 5, 6, 7, 8, 9, 10, 11, 12, 13, 14, 15, 16, 17, 18, 19, 20

## JA_HDR_IDC_10X2_VERT
designator H?, comment HDR_IDC_10X2_VERT
IDC Header, 2.54mm, 20-Pin, Vert; Supplier: ECE Dept; Supplier 1: Farnell; Supplier Part Number 1: 1096988; Storage Location: ECE Dept Store
footprint IDC2.54-V20D (Connector; IDC, Low Profile Male Header, Thru-Hole; 20 Position; Vertical; Pitch 2.54 mm; Body 33.02 x 9.2 x 9.45 mm (LxWxH))
signal-integrity model Connector
pins: 1, 2, 3, 4, 5, 6, 7, 8, 9, 10, 11, 12, 13, 14, 15, 16, 17, 18, 19, 20

## JA_HDR_IDC_13X2_R/A
designator H?, comment HDR_IDC_13X2_R/A
IDC Header, 2.54mm, 26-Pin, Right Angle; Supplier: ECE Dept; Supplier 1: Farnell; Supplier Part Number 1: 1096983; Storage Location: ECE Dept Store
footprint IDC2.54-H26C (Connector; IDC, Low Profile Male Header, Thru-Hole; 26 Position; Right Angle; Pitch 2.54 mm; Body 40.64 x 8.9 x 9.2 mm (LxWxH))
signal-integrity model Connector
pins: 1, 2, 3, 4, 5, 6, 7, 8, 9, 10, 11, 12, 13, 14, 15, 16, 17, 18, 19, 20, 21, 22, 23, 24, 25, 26

## JA_HDR_IDC_13X2_VERT
designator H?, comment HDR_IDC_13X2_VERT
IDC Header, 2.54mm, 26-Pin, Vert; Supplier: ECE Dept; Supplier 1: Farnell; Supplier Part Number 1: 1096991; Storage Location: ECE Dept Store
footprint IDC2.54-V26D (Connector; IDC, Low Profile Male Header, Thru-Hole; 26 Position; Vertical; Pitch 2.54 mm; Body 40.64 x 9.2 x 9.45 mm (LxWxH))
signal-integrity model Connector
pins: 1, 2, 3, 4, 5, 6, 7, 8, 9, 10, 11, 12, 13, 14, 15, 16, 17, 18, 19, 20, 21, 22, 23, 24, 25, 26

## JA_HDR_IDC_17X2_R/A
designator H?, comment HDR_IDC_17X2_R/A
IDC Header, 2.54mm, 34-Pin, Right Angle; Supplier: ECE Dept; Supplier 1: Farnell; Supplier Part Number 1: 1106736; Storage Location: ECE Dept Store
footprint IDC2.54-H34C (Connector; IDC, Low Profile Male Header, Thru-Hole; 34 Position; Right Angle; Pitch 2.54 mm; Body 50.80 x 8.9 x 9.2 mm (LxWxH))
signal-integrity model Connector
pins: 1, 2, 3, 4, 5, 6, 7, 8, 9, 10, 11, 12, 13, 14, 15, 16, 17, 18, 19, 20, 21, 22, 23, 24, 25, 26, 27, 28, 29, 30, 31, 32, 33, 34

## JA_HDR_IDC_17X2_VERT
designator H?, comment HDR_IDC_17X2_VERT
IDC Header, 2.54mm, 34-Pin, Vert; Supplier: ECE Dept; Supplier 1: Farnell; Supplier Part Number 1: 1096992; Storage Location: ECE Dept Store
footprint IDC2.54-V34D (Connector; IDC, Low Profile Male Header, Thru-Hole; 34 Position; Vertical; Pitch 2.54 mm; Body 50.80 x 9.2 x 9.45 mm (LxWxH))
signal-integrity model Connector
pins: 1, 2, 3, 4, 5, 6, 7, 8, 9, 10, 11, 12, 13, 14, 15, 16, 17, 18, 19, 20, 21, 22, 23, 24, 25, 26, 27, 28, 29, 30, 31, 32, 33, 34

## JA_HDR_IDC_20X2_R/A
designator H?, comment HDR_IDC_20X2_R/A
IDC Header, 2.54mm, 40-Pin, Right Angle; Supplier: ECE Dept; Supplier 1: Farnell; Supplier Part Number 1: 1106737; Storage Location: ECE Dept Store
footprint IDC2.54-H40C (Connector; IDC, Low Profile Male Header, Thru-Hole; 40 Position; Right Angle; Pitch 2.54 mm; Body 58.42 x 8.9 x 9.2 mm (LxWxH))
signal-integrity model Connector
pins: 1, 2, 3, 4, 5, 6, 7, 8, 9, 10, 11, 12, 13, 14, 15, 16, 17, 18, 19, 20, 21, 22, 23, 24, 25, 26, 27, 28, 29, 30, 31, 32, 33, 34, 35, 36, 37, 38, 39, 40

## JA_HDR_IDC_20X2_VERT
designator H?, comment HDR_IDC_20X2_VERT
IDC Header, 2.54mm, 40-Pin, Vert; Supplier: ECE Dept; Supplier 1: Farnell; Supplier Part Number 1: 1096993; Storage Location: ECE Dept Store
footprint IDC2.54-V40D (Connector; IDC, Low Profile Male Header, Thru-Hole; 40 Position; Vertical; Pitch 2.54 mm; Body 58.42 x 9.2 x 9.45 mm (LxWxH))
signal-integrity model Connector
pins: 1, 2, 3, 4, 5, 6, 7, 8, 9, 10, 11, 12, 13, 14, 15, 16, 17, 18, 19, 20, 21, 22, 23, 24, 25, 26, 27, 28, 29, 30, 31, 32, 33, 34, 35, 36, 37, 38, 39, 40

## JA_MOLEX_KK_2POS
designator H?, comment 2 Pin Molex KK HDR
CONN HEADER 2POS 2.54mm VERT_Thru Hole; Supplier 1: Farnell; Supplier Part Number 1: 1462926; Supplier: ECE Dept; Storage Location: ECE Dept Store; Value: 2 Pin Molex KK HDR
footprint MOLEX_KK_2_HDR
signal-integrity model Connector
pins: 1, 2

## JA_MOLEX_KK_3POS
designator H?, comment 3 Pin Molex KK Hdr
CONN HEADER 3POS 2.54mm VERT_Thru Hole; Manufacturer: Molex; Manufacturer PN: 22-23-2031; Supplier Part Number 1: 9731156; Supplier: ECE Dept; Supplier 1: Farnell; Storage Location: ECE Dept Store; Value: 3 Pin Molex KK Hdr
signal-integrity model Connector
footprint MOLEX_KK_3_HDR
pins: 1, 2, 3

## JA_MOLEX_KK_4POS
designator H?, comment 4 Pin Molex KK Hdr
CONN HEADER 4POS 2.54mm VERT_Thru Hole; Manufacturer: Molex; Manufacturer PN: 22-23-2041; Supplier Part Number 1: 9731164; Supplier: ECE Dept; Supplier 1: Farnell; Storage Location: ECE Dept Store; Value: 4 Pin Molex KK Hdr
signal-integrity model Connector
footprint MOLEX_KK_4_HDR
pins: 1, 2, 3, 4

## JA_MOLEX_KK_5POS
designator H?, comment 5 Pin Molex KK Hdr
CONN HEADER 5POS 2.54mm VERT_Thru Hole; Manufacturer: Molex; Manufacturer PN: 22-23-2051; Supplier Part Number 1: 9731679; Supplier: ECE Dept; Supplier 1: Farnell; Storage Location: ECE Dept Store; Value: 5 Pin Molex KK Hdr
signal-integrity model Connector
footprint MOLEX_KK_5_HDR
pins: 1, 2, 3, 4, 5

## JA_MOLEX_KK_6POS
designator H?, comment 6 Pin Molex KK Hdr
CONN HEADER 6POS 2.54mm VERT_Thru Hole; Supplier Part Number 1: 1462922; Supplier: ECE Dept; Supplier 1: Farnell; Storage Location: ECE Dept Store; Value: 6 Pin Molex KK Hdr
footprint MOLEX_KK_6_HDR
signal-integrity model Connector
pins: 1, 2, 3, 4, 5, 6

## JA_MOLEX_KK_8POS
designator H?, comment 8 PIN Molex KK Hdr
CONN HEADER 8POS 2.54mm VERT_Thru Hole; Supplier 1: Farnell; Supplier Part Number 1: 1756826; Supplier: ECE Dept; Storage Location: ECE Dept Store; Value: 8 PIN Molex KK Hdr
footprint MOLEX_KK_8_HDR
signal-integrity model Connector
pins: 1, 2, 3, 4, 5, 6, 7, 8

## JA_MOLEX_KK_10POS
designator H?, comment 10 Pin Molex KK Hdr
CONN HEADER 10POS 2.54mm VERT_ Thru Hole; Supplier 1: Farnell; Supplier Part Number 1: 1756828; Supplier: ECE Dept; Storage Location: ECE Dept Store; Value: 10 Pin Molex KK Hdr
footprint MOLEX_KK_10_HDR
signal-integrity model Connector
pins: 1, 2, 3, 4, 5, 6, 7, 8, 9, 10

## JA_TERM_BLK_HDR_2 PIN
designator H?
TERM_BLK_HEADER 5.08mm 2 Pos R/A Thru Hole; Manufacturer: *; Verify: *; Supplier Part Number 1: 3704579; Supplier: ECE Dept; Supplier 1: Farnell; Storage Location: ECE Dept Store
signal-integrity model Connector
footprint TMHDR2 (5.08mm Pluggable Terminal Header)
pins: 1, 2

## JA_TERM_BLK_HDR_3 PIN
designator H?
TERM_BLK_HEADER 5.08mm 3-Pos vert Thru Hole; Supplier: ECE Dept; Storage Location: ECE Dept Store
footprint TMHDR3 (5.08mm Pluggable Terminal Header)
pins: 1, 2, 3

## JA_TERM_BLK_HDR_4 PIN
designator H?
TERM_BLK_HEADER 5.08mm 4-Pos R/A Thru Hole; Supplier Part Number 1: 3704592; Supplier: ECE Dept; Supplier 1: Farnell; Storage Location: ECE Dept Store
footprint TMHDR4 (5.08mm Pluggable Terminal Header)
pins: 1, 2, 3, 4

## JB_53261-02
designator H?, comment SMD 1.25mm Horiz
Header_Horiz_2Pos_1.25mm_125V@1A_SMT; Manufacturer: MOLEX; Manufacturer Part Number: 53261-0271; External Depth: 4.2; External Length / Height: 3.4; Gender: Header; No. of Contacts: 2; Pitch Spacing: 1.25; Voltage Rating V AC: 125; Contact Termination: Surface Mount Right Angle; Lead Spacing: 1.25; Series: PicoBlade; Pricing: 5=0.27, 100=0.255, 250=0.245, 500=0.225, 1000=0.205 (NZD); Supplier 1: Farnell; Supplier Part Number 1: 1125373; Supplier 2: Digi-Key; Supplier Part Number 2: WM7620CT-ND; Supplier: ECE Dept; Storage Location: PCB Assembly WS; Value: SMD 1.25mm Horiz
signal-integrity model Connector
footprint SD-53261-0219 (Molex Pico Blade 2 Pos Horiz SMD Header)
pins: 1, 2

## JB_53261-03
designator H?, comment SMD Horiz 1.25mm
Header_Horiz_3Pos_1.25mm_125V@1A_SMT; Manufacturer: Molex; Manufacturer Part Number: 53261-0390; Number of Positions: 3; Pitch: 0.049" (1.25mm); Contact Type: Blade Pin; Mounting Type: Surface Mount, Right Angle; Supplier 1: Farnell; Supplier Part Number 1: 1125359; Supplier 2: Digi-Key; Supplier Part Number 2: WM1754CT-ND; Supplier: ECE Dept; Storage Location: PCB Assembly WS; Value: SMD Horiz 1.25mm
footprint SD-53261-0319 (Molex Pico Blade 3 Pos Horiz SMD Header)
pins: 1, 2, 3

## JB_53261-04
designator H?, comment SMD Horiz 1.25mm
Header_Horiz_4Pos1.25mm_125V@1A_SMT; Manufacturer: Molex; Manufacturer Part Number: 53261-0490; Number of Positions: 4; Contact Type: Blade Pin; Mounting Type: Surface Mount, Right Angle; Supplier 1: Farnell; Supplier Part Number 1: 1125374; Supplier: ECE Dept; Storage Location: PCB Assembly WS; Value: SMD Horiz 1.25mm
footprint SD-53261-0419 (Molex Pico Blade 4 Pos Horiz SMD Header)
pins: 1, 2, 3, 4

## JB_53261-05
designator H?, comment SMD Horiz 1.25mm
Header_Horiz_5Pos_1.25mm_125V@1A_SMT; Manufacturer: MOLEX; Manufacturer Part Number: 53261-0590; Contact Termination: Surface Mount Right Angle; Current Rating: 1; External Depth: 4.2; External Length / Height: 3.4; No. of Contacts: 5; Pitch Spacing: 1.25; Supplier 1: Farnell; Supplier Part Number 1: 615018; Supplier: ECE Dept; Storage Location: PCB Assembly WS; Value: SMD Horiz 1.25mm
footprint SD-53398-0519 (Molex Pico Blade 5 Pos Vert SMD Header)
pins: 1, 2, 3, 4, 5

## JB_53261-06
designator H?, comment SMD Horiz 1.25mm
Header_Horiz_6Pos_1.25mm_125V@1A_SMT; Manufacturer: MOLEX; Manufacturer Part Number: 53261-0671; Contact Termination: Surface Mount Right Angle; Current Rating: 1; External Depth: 4.2; External Length / Height: 3.4; Gender: Header; No. of Contacts: 6; Lead Spacing: 1.25; Series: PicoBlade; Supplier 1: Farnell; Supplier Part Number 1: 1125375; Supplier: ECE Dept; Storage Location: PCB Assembly WS; Value: SMD Horiz 1.25mm
footprint SD-53261-0619 (Molex Pico Blade 6 Pos Horiz SMD Header)
pins: 1, 2, 3, 4, 5, 6

## JB_53261-08
designator H?, comment SMD Horiz 1.25 mm
Header_Horiz_8Pos_1.25mm_125V@1A_SMT; Manufacturer: MOLEX; Manufacturer Part Number: 53261-0871; Contact Termination: Surface Mount Right Angle; Current Rating: 1; External Depth: 4.2; External Length / Height: 3.4; Gender: Header; No. of Contacts: 8; Lead Spacing: 1.25; Series: PicoBlade; Supplier 1: Farnell; Supplier Part Number 1: 1125376; Supplier: ECE Dept; Storage Location: PCB Assembly WS; Value: SMD Horiz 1.25 mm
footprint SD-53261-0819 (Molex Pico Blade 8 Pos Horiz SMD Header)
pins: 1, 2, 3, 4, 5, 6, 7, 8

## JB_53398-02
designator H?, comment SMD Vert 1.25mm
Header_Vert_2Pos_1.25mm_125V@1A_SMT; Manufacturer: Molex Inc; Manufacturer Part Number: 0533980271; Number of Positions: 2; Pitch: 0.049" (1.25mm); Contact Type: Blade Pin; Mounting Type: Surface Mount; Supplier 1: Digi-Key; Supplier Part Number 1: WM7606CT-ND; Supplier: ECE Dept; Storage Location: PCB Assembly WS; Value: SMD Vert 1.25mm
signal-integrity model Connector
footprint SD-53398-0219 (Molex Pico Blade 2 Pos Vert SMD Header)
pins: 1, 2

## JB_53398-03
designator H?, comment SMD Vert 1.25mm
Header_Vert_3Pos_1.25mm_125V@1A_SMT; Manufacturer: MOLEX; Manufacturer Part Number: 53398-0371; Contact Termination: Surface Mount Vertical; Current Rating: 1; External Depth: 3.7; External Length / Height: 4.7; Gender: Header; No. of Contacts: 3; Series: PicoBlade; Supplier 1: Farnell; Supplier Part Number 1: 1125353; Supplier: ECE Dept; Storage Location: PCB Assembly WS; Value: SMD Vert 1.25mm
footprint SD-53398-0319 (Molex Pico Blade 3 Pos Vert SMD Header)
pins: 1, 2, 3

## JB_53398-04
designator H?, comment SMD Vert 1.25mm
Header_Vert_4Pos_1.25mm_125V@1A_SMT; Manufacturer: MOLEX; Manufacturer Part Number: 53398-0471; Contact Termination: Surface Mount Vertical; Current Rating: 1; Lead Spacing: 1.25; Series: PicoBlade; Supplier 1: Farnell; Supplier Part Number 1: 1125367; Supplier: ECE Dept; Storage Location: PCB Assembly WS; Value: SMD Vert 1.25mm
footprint SD-53398-0419 (Molex Pico Blade 4 Pos Vert SMD Header)
pins: 1, 2, 3, 4

## JB_53398-05
designator H?, comment SMD Vert 1.25mm
Header_Vert_5Pos_1.25mm_125V@1A_SMT; Manufacturer: MOLEX; Manufacturer Part Number: 53398-0571; Contact Termination: Surface Mount Vertical; Current Rating: 1; Series: PicoBlade; Supplier 1: Farnell; Supplier Part Number 1: 1125354; Supplier: ECE Dept; Storage Location: PCB Assembly WS; Value: SMD Vert 1.25mm
footprint SD-53398-0519 (Molex Pico Blade 5 Pos Vert SMD Header)
pins: 1, 2, 3, 4, 5

## JB_53398-06
designator H?, comment SMD Vert 1.25mm
Header_Vert_6Pos_1.25mm_125V@1A_SMT; Manufacturer: Molex Inc; Manufacturer Part Number: 0533980671; Number of Positions: 6; Contact Type: Blade Pin; Supplier 1: Digi-Key; Supplier Part Number 1: WM7610CT-ND; Supplier: ECE Dept; Storage Location: PCB Assembly WS; Value: SMD Vert 1.25mm
footprint SD-53398-0619 (Molex Pico Blade 6 Pos Vert SMD Header)
pins: 1, 2, 3, 4, 5, 6

## JB_53398-08
designator H?, comment SMD Vert 1.25mm
Header_Vert_8Pos_1.25mm_125V@1A_SMT; Manufacturer: Molex; Manufacturer Part Number: 53398-0890; Number of Positions: 8; Contact Type: Blade Pin; Mounting Type: Surface Mount; Supplier 1: Digi-Key; Supplier Part Number 1: WM1770CT-ND; Supplier: ECE Dept; Storage Location: PCB Assembly WS; Value: SMD Vert 1.25mm
footprint SD-53398-0819 (Molex Pico Blade 8 Pos Vert SMD Header)
pins: 1, 2, 3, 4, 5, 6, 7, 8

## JB_FH34S-6S-0.5SH
designator H?, comment Ziff
CONN FPC/FFC 6POS .5MM ZIF SMD; Manufacturer: Hirose Electric Co Ltd; Manufacturer Part Number: FH34S-6S-0.5SH(50); FFC, FCB Thickness: 0.30mm; Number of Positions: 6; Locking Feature: Rotary Lock, Backlock; Pitch: 0.020" (0.50mm); Supplier 1: Digi-Key; Supplier 2: Farnell; Features: Zero Insertion Force (ZIF); Height Above Board: 0.039" (1.00mm); Mounting Type: Surface Mount, Right Angle; Supplier Part Number 1: HFT106CT-ND; Supplier Part Number 2: 2427800
footprint FH34S-6S-0.5SH (6Pos 0.5mm ZIF Header)
pins: 1, 2, 3, 4, 5, 6

## JB_HDR_IDC_5X2_VERT
designator H?, comment Not being re-ordered
IDC Header, 1,27mm, 10-Pin, Vert, SMT; Manufacturer: TE Connectivity; Manufacturer Part Number: 1-188275-0; Current Rating: 1.5 A; Mounting Angle: Vertical; Number of Positions / Contacts: 10; Pitch: 1.27 mm; Supplier: ECE Dept; Mounting Style: SMD/SMT; Storage Location: PCB Assembly WS; Supplier 1: Digi-Key; Supplier Part Number 1: A99476TR-ND; Warning: Not being re-ordered
footprint 188275-10 (MicroMatch Ribbon Connector 10 way)
pins: 1, 2, 3, 4, 5, 6, 7, 8, 9, 10

## JB_HDR_IDC_8X2_VERT
designator H?, comment Not being re-ordered
IDC Header, 1,27mm, 16-Pin, Vert, SMT; Manufacturer Part Number: 1-188275-6; Manufacturer: TE Connectivity / AMP; Current Rating: 1.5 A; Mounting Angle: Vertical; Number of Positions / Contacts: 16; Pitch: 1.27 mm; Mounting Style: SMD/SMT; Series: Micro-MaTch; Supplier: ECE Dept; Storage Location: PCB Assembly WS; Supplier 1: Digi-Key; Supplier Part Number 1: A107023CT-ND; Warning: Not being re-ordered
footprint 188275-16 (MicroMatch Ribbon Connector 16 way)
pins: 1, 2, 3, 4, 5, 6, 7, 8, 9, 10, 11, 12, 13, 14, 15, 16

## JB_HDR_IDC_10X2_VERT
designator H?, comment Not being re-ordered
IDC Header, 1,27mm, 20-Pin, Vert, SMT; Manufacturer: TE Connectivity; Manufacturer Part Number: 2-188275-0; Mounting Angle: Vertical; Number of Positions / Contacts: 20; Pitch: 1.27 mm; Mounting Style: SMD/SMT; Supplier: ECE Dept; Storage Location: PCB Assembly WS; Supplier 1: Digi-Key; Supplier Part Number 1: A99481CT-ND; Warning: Not being re-ordered
footprint 188275-20 (MicroMatch Ribbon Connector 20 way)
pins: 1, 2, 3, 4, 5, 6, 7, 8, 9, 10, 11, 12, 13, 14, 15, 16, 17, 18, 19, 20

## JB_IDC_BOX_HDR_10
designator H?  (value not drawn)
IDC BOX HEADER 2.54mm 10POS SMT; Manufacturer: CNC Tech; Manufacturer Part Number: 3020-10-0300-00; Connector Type: Header, Shrouded; Number of Positions: 10; Pitch: 0.100" (2.54mm); Supplier 1: Digi-Key; Contact Type: Male Pin; Number of Rows: 2; Row Spacing: 0.100" (2.54mm); Supplier: Digi-Key; Supplier Part Number 1: 1175-1621-ND; Supplier Part Number: 1175-1621-ND
footprint 3020-10-0300-00 (IDC BOX HEADER 2.54mm 10POS)
pins: 1, 2, 3, 4, 5, 6, 7, 8, 9, 10

## JB_IDC_BOX_HDR_16
designator H?  (value not drawn)
IDC BOX HEADER 2.54mm 16POS SMT; Manufacturer: CNC Tech; Manufacturer Part Number: 3020-16-0300-00; Connector Type: Header, Shrouded; Number of Positions: 16; Pitch: 0.100" (2.54mm); Contact Type: Male Pin; Mounting Type: Surface Mount; Number of Rows: 2; Row Spacing: 0.100" (2.54mm); Termination: Solder; Supplier 1: Digi-Key; Supplier Part Number 1: 1175-1624-ND
footprint 3020-16-0300-00 (IDC BOX HEADER 2.54mm 16POS)
pins: 1, 2, 3, 4, 5, 6, 7, 8, 9, 10, 11, 12, 13, 14, 15, 16

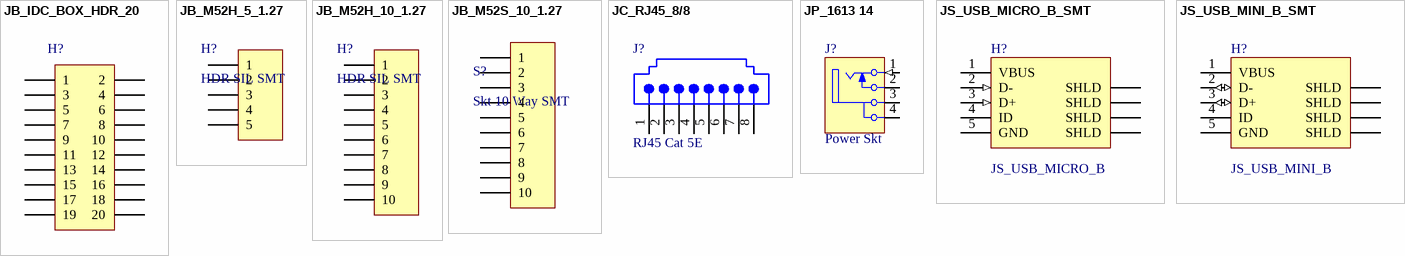
[diagram p5: symbols JB_IDC_BOX_HDR_20 to JS_USB_MINI_B_SMT]

## JB_IDC_BOX_HDR_20
designator H?  (value not drawn)
IDC BOX HEADER 2.54mm 20POS SMT; Manufacturer: CNC Tech; Manufacturer Part Number: 3020-20-0300-00; Connector Type: Header, Shrouded; Number of Positions: 20; Pitch: 0.100" (2.54mm); Contact Type: Male Pin; Mounting Type: Surface Mount; Number of Rows: 2; Row Spacing: 0.100" (2.54mm); Supplier 1: Digi-Key; Supplier Part Number 1: 1175-1623-ND
footprint 3020-20-0300-00 (IDC BOX HEADER 2.54mm 20POS)
pins: 1, 2, 3, 4, 5, 6, 7, 8, 9, 10, 11, 12, 13, 14, 15, 16, 17, 18, 19, 20

## JB_M52H_5_1.27
designator H?, comment HDR SIL SMT
Header 1.27mm Pitch SIL 5 Way SMT; Manufacturer: HARWIN; Manufacturer Part Number: M52-040000P0545; Contact Termination: Surface Mount Vertical; Current Rating: 1; Pitch Spacing: 1.27; No. of Contacts: 5; Gender: Header; Lead Spacing: 1.27; No. of Rows: 1; No. of Ways: 5; Supplier 1: Farnell; Supplier Part Number 1: 1099569; Storage Location: PCB Assembly WS; Supplier: ECE Dept
footprint M52-040000P0545 (1.27mm SIL SMT 5 way Pin Header)
pins: 1, 2, 3, 4, 5

## JB_M52H_10_1.27
designator H?, comment HDR SIL SMT
Header 1.27mm Pitch SIL 10 Way SMT; Manufacturer: HARWIN; Manufacturer Part Number: M52-040000P1045; Contact Termination: Surface Mount Vertical; Current Rating: 1; No. of Poles: 10; Pitch Spacing: 1.27; Gender: Header; Lead Spacing: 1.27; No. of Rows: 1; Supplier 1: Farnell; Supplier Part Number 1: 1099570; Storage Location: PCB Assembly WS; Supplier: ECE Dept
footprint M52-040000P1045 (1.27mm SIL SMT 10 way Pin Header)
pins: 1, 2, 3, 4, 5, 6, 7, 8, 9, 10

## JB_M52S_10_1.27
designator S?, comment Skt 10 Way SMT
Socket 1.27mm Pitch SIL 10 Way SMT; Manufacturer: HARWIN; Manufacturer Part Number: M52-5051045; Contact Termination: Surface Mount Vertical; Current Rating: 1; External Length / Height: 4.6; No. of Contacts: 10; Pitch Spacing: 1.27; Lead Spacing: 1.27; Mounting Type: Surface Mount; No. of Ways: 10; Supplier 1: Farnell; Supplier Part Number 1: 1099548; Storage Location: PCB Assembly WS; Supplier: ECE Dept
footprint M52-5051045 (1.27mm SIL Vert 10 way SMT Socket)
pins: 1, 2, 3, 4, 5, 6, 7, 8, 9, 10

## JC_RJ45_8/8
designator J?, comment RJ45 Cat 5E
Right Angle, Standard Profile, RJ45-Keyed, Flange Mount PCB Jack; Manufacturer: Molex; Manufacturer PN: 85503-5001; PCB_Mounting: Thru-Hole; LAN Cat: Cat 5E; Supplier: ECE Dept; Supplier PN: 2060718; Supplier 1: Farnell; Supplier Part Number 1: 2060718; Storage Location: ECE Dept Store
signal-integrity model Modular Jack
footprint JACK1.27-2H8B (Connector; PCB Jack, Thru-Hole; 1-Port, 8 Positions, 8 Loaded; Unshielded without Lightpipes; Right Angle)
pins: 1, 2, 3, 4, 5, 6, 7, 8

## JP_1613 14
designator J?, comment Power Skt
Power supply chassis socket, SMD, Right Angle, with break contacts, 24V DC, 3.5A; Supplier 1: Farnell; Supplier Part Number 1: 1243245; Supplier: ECE Dept; Storage Location: PCB Assembly WS
footprint 1613_14 (Connector; Low Power Socket, SM, Right Angle, Body 14.8 x 9 x 11 mm (LxWxH))
pins: 1 T (in) "Tip/Left Channel/(+)", 2 TN "Tip Normal (Break Contact)", 3 S (power) "Sleeve (Ground)", 4 S (power) "Sleeve (Ground)"

## JS_USB_MICRO_B_SMT
designator H?, comment JS_USB_MICRO_B
CONN USB MICRO B RECPT SMT R/A; Manufacturer: FCI; Manufacturer Part Number: 10118194-0001LF; Gender: Receptacle; Number of Contacts: 5; Specifications: USB 2.0; Supplier 1: Digi-Key; Supplier Part Number 1: 609-4618-1-ND; Features: Shielded, Solder Retention; Mounting Type: Surface Mount, Right Angle, Horizontal
signal-integrity model USB2.0
footprint FCI_USB_10118194-0001LF (Micro USB B Type Receptacle)
pins: 1 VBUS (power) "Power", 2 D- (in) "-DATA", 3 D+ (in) "+DATA", 4 ID (power) "Ground", 5 GND "Shield", 6 SHLD "Shield", 6 SHLD "Shield", 6 SHLD "Shield", 6 SHLD "Shield"

## JS_USB_MINI_B_SMT
designator H?, comment JS_USB_MINI_B
USB 2.0, Right Angle, SMT, B Type, Receptacle, 5 Position,; Manufacturer: FCI; Manufacturer PN: 10033526-N3212MLF; Supplier 1: Farnell; Supplier Part Number 1: 1824416; Storage Location: PCB Assembly WS; Supplier: ECE Dept
signal-integrity model USB2.0
footprint USB/SM0.8-6H5 (Connector; USB2.0, Type B, SM; 5 Position; Right Angle)
pins: 1 VBUS (power) "Power", 2 D- (io) "-DATA", 3 D+ (io) "+DATA", 4 ID (power) "Ground", 5 GND "Shield", 6 SHLD "Shield", 7 SHLD "Shield", 8 SHLD "Shield", 9 SHLD "Shield"


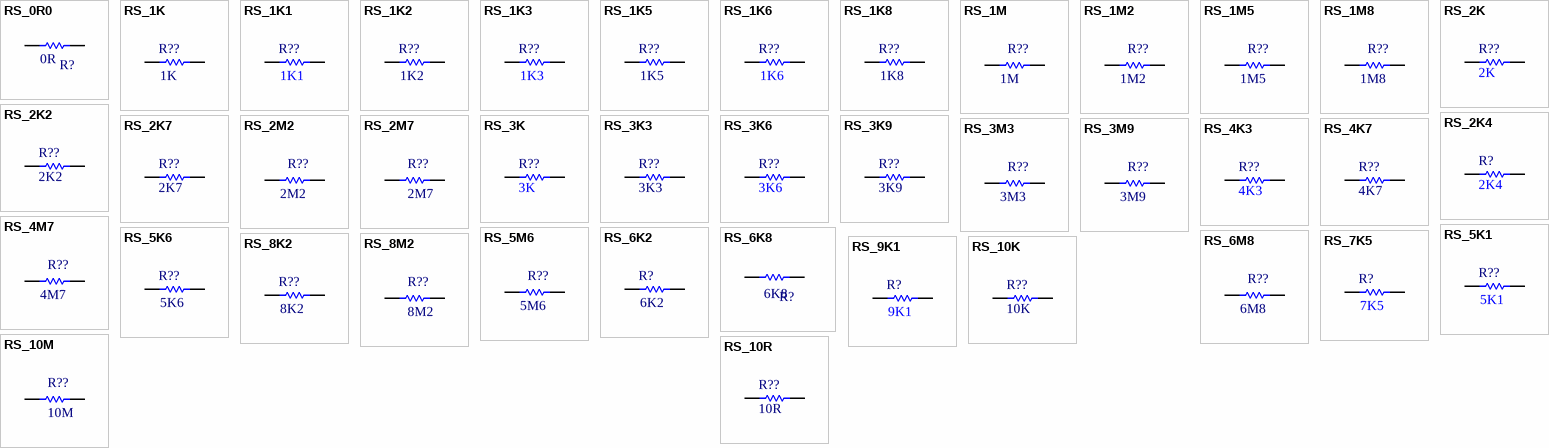
[diagram p6: symbols RS_0R0 to RS_10R]

## RS_0R0
designator R?, comment 0R
RES 0.0 OHM 1/10W 5% 0603 SMD; Storage Location: PCB Assembly WS; Supplier: ECE Dept; Value: 0R
simulation model RESISTOR (Resistor)
signal-integrity model Res
footprint RESC1608L (Chip Resistor, Body 1.6x0.8mm, IPC High Density)
footprint RESC1608N (Chip Resistor, Body 1.6x0.8mm, IPC Medium Density)
pins: 1, 2

## RS_1K
designator R??, comment 1K
RES 1.0K OHM 1/10W 5% 0603 SMD; Storage Location: PCB Assembly WS; Supplier: ECE Dept; Value: 1K
simulation model RESISTOR (Resistor)
signal-integrity model Res
footprint RESC1608L (Chip Resistor, Body 1.6x0.8mm, IPC High Density)
footprint RESC1608N (Chip Resistor, Body 1.6x0.8mm, IPC Medium Density)
pins: 1, 2

## RS_1K1
designator R??, comment 1K1
RES 1.1K OHM 1/10W 5% 0603 SMD; Storage Location: PCB Assembly WS; Supplier: ECE Dept; Value: 1K1
simulation model RESISTOR (Resistor)
signal-integrity model Res
footprint RESC1608L (Chip Resistor, Body 1.6x0.8mm, IPC High Density)
footprint RESC1608N (Chip Resistor, Body 1.6x0.8mm, IPC Medium Density)
pins: 1, 2

## RS_1K2
designator R??, comment 1K2
RES 1.2K OHM 1/10W 5% 0603 SMD; Storage Location: PCB Assembly WS; Supplier: ECE Dept; Value: 1K2
simulation model RESISTOR (Resistor)
signal-integrity model Res
footprint RESC1608N (Chip Resistor, Body 1.6x0.8mm, IPC Medium Density)
footprint RESC1608L (Chip Resistor, Body 1.6x0.8mm, IPC High Density)
pins: 1, 2